# EAGLE library part TPC8407 (library FET-TOSHIBA)
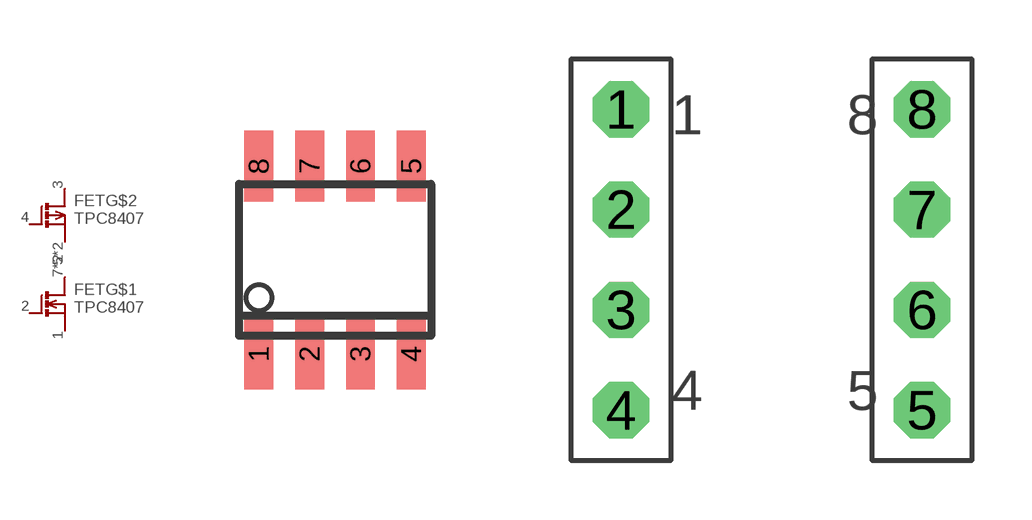
[diagram p0: symbol with the pads of SOP-8; footprints SOP-8, DIP-8]

Designator prefix FET; gates G$1=NCH-FET G$2=PCH-FET

## TPC8407  [SOP-8]
1  G$1:S
2  G$1:G
3  G$2:D
4  G$2:G
5  G$2:S
6  G$2:S
7  G$1:D
8  G$1:D

## TPC8407-DIP  [DIP-8]
Pads as for SOP-8

## Footprint SOP-8 (pad centres in mm)
8 Lead SOIC Data Sheet No. PD60212 Rev A Source: www.irf.com .. ir2520.pdf
smd 0.72 x 1.78: 1 -1.905,-2.35; 2 -0.635,-2.35; 3 0.635,-2.35; 4 1.905,-2.35; 5 1.905,2.35; 6 0.635,2.35; 7 -0.635,2.35; 8 -1.905,2.35

## Footprint DIP-8 (pad centres in mm)
drill 0.9 pad 1.422 octagon: 1 -3.81,3.81; 2 -3.81,1.27; 3 -3.81,-1.27; 4 -3.81,-3.81; 5 3.81,-3.81; 6 3.81,-1.27; 7 3.81,1.27; 8 3.81,3.81